# Altium schematic symbol library RT9288A.SchLib: 1 symbol
Pins are listed as number, name and electrical type; pins without a type are passive.

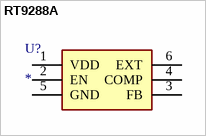
[diagram p0: symbol RT9288A]

## RT9288A
designator U?
Integrated Circuit; Manufacturer_Name: Microchip; Manufacturer_Part_Number: 25AA02E64T-I/OT; Datasheet Link: http://uk.rs-online.com/web/p/products/8261745; Height: 1.45mm; Mouser Part Number: 579-25AA02E64T-I/OT; Mouser Price/Stock: https://www.mouser.com/Search/Refine.aspx?Keyword=579-25AA02E64T-I%2FOT; RS Part Number: 8261745; RS Price/Stock: https://uk.rs-online.com/web/p/products/8261745
footprint SOT95P270X145-6N
pins: 1 VDD, 2 EN, 3 FB, 4 COMP, 5 GND, 6 EXT